# EAGLE library part AVRISP10PIN (library avrisp)
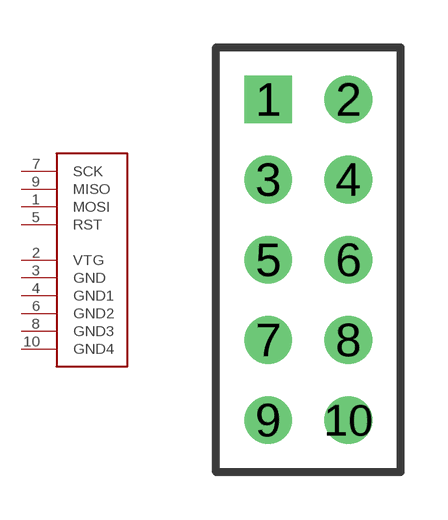
[diagram p1: symbol with the pads of 10PIN; footprint 10PIN]

Designator prefix -

## AVRISP10PIN  [10PIN]
1  MOSI
2  VTG  sup
3  GND  sup
4  GND1  sup
5  RST
6  GND2  sup
7  SCK
8  GND3  sup
9  MISO
10  GND4  sup

## Footprint 10PIN (pad centres in mm)
drill 1 square: 1 -1.27,5.08
drill 1 round: 2 1.27,5.08; 3 -1.27,2.54; 4 1.27,2.54; 5 -1.27,0; 6 1.27,0; 7 -1.27,-2.54; 8 1.27,-2.54; 9 -1.27,-5.08; 10 1.27,-5.08